# Altium footprint library 15EDGRC-3.81-02P.PcbLib: 1 footprints
Each footprint in its own frame and in the unit in brackets; x right, y up, seen from the top. Pads: shape width x height; smd on the part's side, far side on the other; paste and mask are expansions set on the pad; w line width, h text height; cw(c..) or ccw(c..) is an arc to the next point about the centre after c.
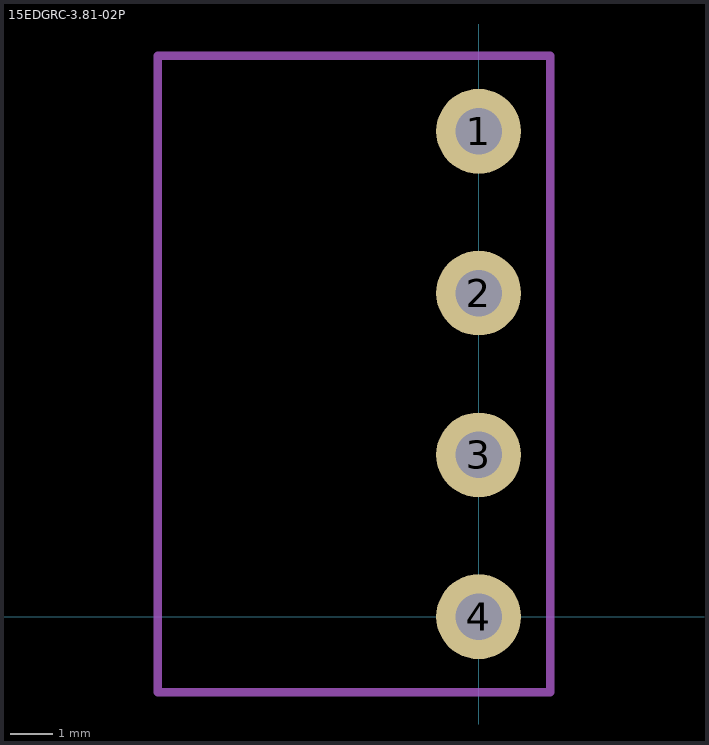
[diagram p0: the footprint, top view; thin cyan lines are the x and y axes]

## 15EDGRC-3.81-02P [mm]
pads (4):
  round 2 hole 1.1: 1(0,11.43) 2(0,7.62) 3(0,3.81) 4(0,0)
TopAssy:
  lines w0.2: -7.56,-1.778 -7.56,13.208 1.69,13.208 1.69,-1.778 -7.56,-1.778